# Altium schematic symbol library Microcontrollers.SchLib: 6 symbols
Pins are listed as number, name and electrical type; pins without a type are passive.

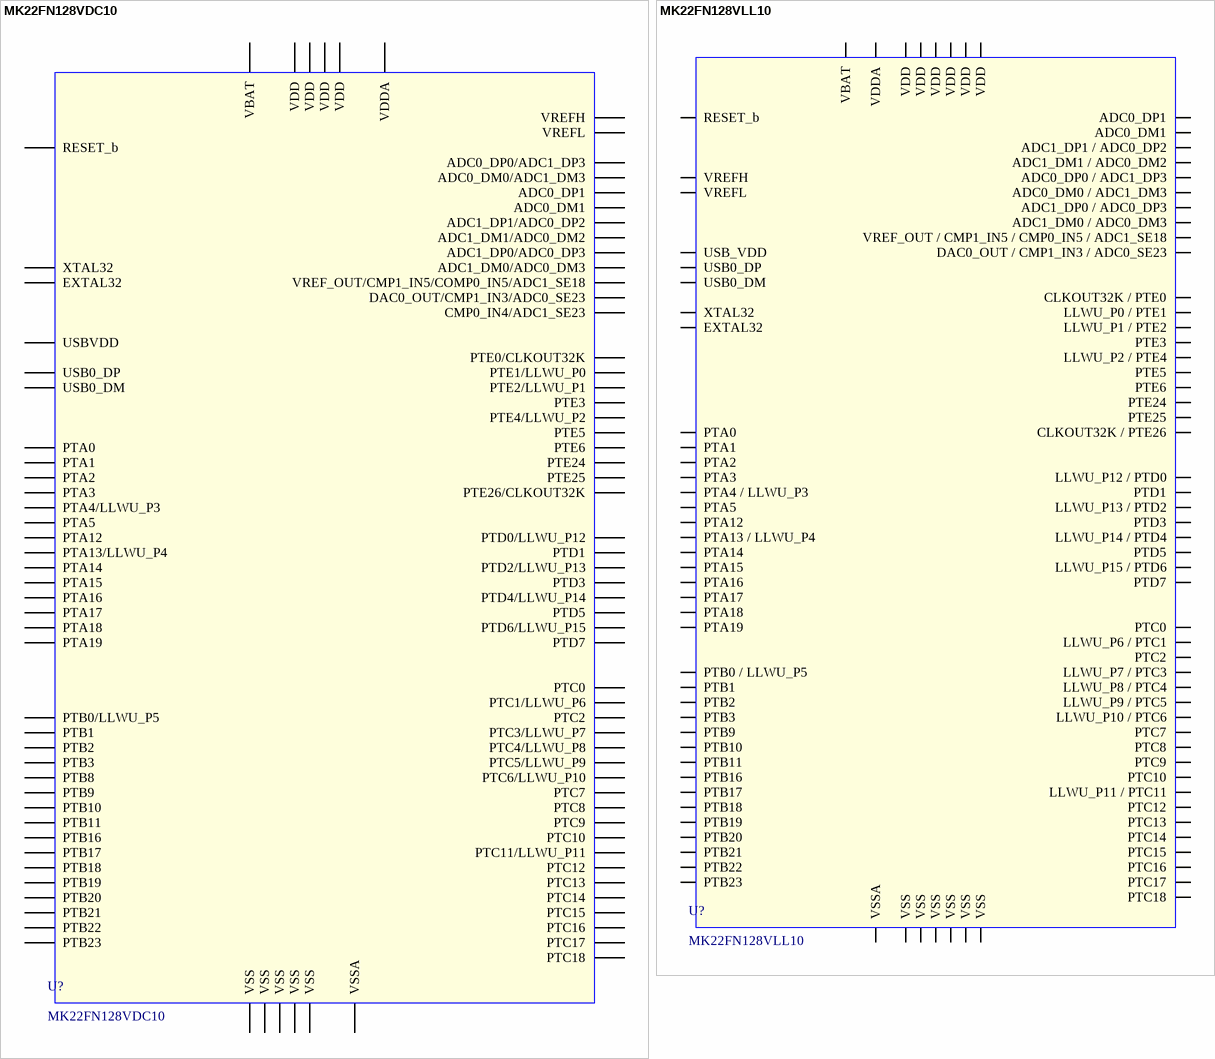
[diagram p0: symbols MK22FN128VDC10 to MK22FN128VLL10]

## MK22FN128VDC10
designator U?
32-bit ARM Cortex-M4 Microcontroller; MFG: FREESCALE; MFG_PN: MK22FN128VDC10
footprint BGA121_0.65mm
pins: A1 PTD7, A2 PTD5, A3 PTD4/LLWU_P14, A4 NC hidden, A5 PTC14, A6 PTC13, A7 PTC8, A8 PTC4/LLWU_P8, A9 NC hidden, A10 NC hidden, A11 NC hidden, B1 NC hidden, B2 PTD6/LLWU_P15, B3 PTD3, B4 PTC18, B5 PTC15, B6 PTC12, B7 PTC7, B8 PTC3/LLWU_P7, B9 PTC0, B10 PTB16, B11 NC hidden, C1 NC hidden, C2 NC hidden, C3 PTD2/LLWU_P13, C4 PTC17, C5 PTC11/LLWU_P11, C6 PTC10, C7 PTC6/LLWU_P10, C8 PTC2, C9 PTB19, C10 PTB11, C11 NC hidden, D1 NC hidden, D2 NC hidden, D3 PTD1, D4 PTD0/LLWU_P12, D5 PTC16, D6 PTC9, D7 PTC5/LLWU_P9, D8 PTC1/LLWU_P6, D9 PTB18, D10 PTB10, D11 PTB8, E1 NC hidden, E2 PTE2/LLWU_P1, E3 PTE1/LLWU_P0, E4 PTE0/CLKOUT32K, E5 VDD, E6 VDD, E7 VDD, E8 PTB23, E9 PTB17, E10 PTB9, E11 NC hidden, F1 USB0_DP, F2 USB0_DM, F3 PTE6, F4 PTE3, F5 VDDA, F6 VSSA, F7 VSS, F8 PTB22, F9 PTB21, F10 PTB20, F11 NC hidden, G1 USBVDD, G2 NC hidden, G3 VSS, G4 PTE5, G5 VREFH, G6 VREFL, G7 VSS, G8 PTB3, G9 PTB2, G10 PTB1, G11 PTB0/LLWU_P5, H1 ADC0_DP1, H2 ADC0_DM1, H3 NC hidden, H4 NC hidden, H5 PTE24, H6 PTE26/CLKOUT32K, H7 PTE4/LLWU_P2, H8 PTA1, H9 PTA3, H10 PTA17, H11 NC hidden, J1 ADC1_DP1/ADC0_DP2, J2 ADC1_DM1/ADC0_DM2, J3 NC hidden, J4 NC hidden, J5 PTE25, J6 PTA0, J7 PTA2, J8 PTA4/LLWU_P3, J9 NC hidden, J10 PTA16, J11 RESET_b, K1 ADC0_DP0/ADC1_DP3, K2 ADC0_DM0/ADC1_DM3, K3 NC hidden, K4 CMP0_IN4/ADC1_SE23, K5 DAC0_OUT/CMP1_IN3/ADC0_SE23, K6 VBAT, K7 PTA5, K8 PTA12, K9 PTA14, K10 VSS, K11 PTA19, L1 ADC1_DP0/ADC0_DP3, L2 ADC1_DM0/ADC0_DM3, L3 VREF_OUT/CMP1_IN5/COMP0_IN5/ADC1_SE18, L4 XTAL32, L5 EXTAL32, L6 VSS, L7 NC hidden, L8 PTA13/LLWU_P4, L9 PTA15, L10 VDD, L11 PTA18

## MK22FN128VLL10
designator U?
32-bit ARM Cortex-M4 Microcontroller; MFG: FREESCALE; MFG_PN: MK22FN128VLL10
footprint LQFP100 0.5mm 14mmx14mm
pins: 1 CLKOUT32K / PTE0, 2 LLWU_P0 / PTE1, 3 LLWU_P1 / PTE2, 4 PTE3, 5 LLWU_P2 / PTE4, 6 PTE5, 7 PTE6, 8 VDD, 9 VSS, 10 USB0_DP, 11 USB0_DM, 12 USB_VDD, 13 NC hidden, 14 ADC0_DP1, 15 ADC0_DM1, 16 ADC1_DP1 / ADC0_DP2, 17 ADC1_DM1 / ADC0_DM2, 18 ADC0_DP0 / ADC1_DP3, 19 ADC0_DM0 / ADC1_DM3, 20 ADC1_DP0 / ADC0_DP3, 21 ADC1_DM0 / ADC0_DM3, 22 VDDA, 23 VREFH, 24 VREFL, 25 VSSA, 26 VREF_OUT / CMP1_IN5 / CMP0_IN5 / ADC1_SE18, 27 DAC0_OUT / CMP1_IN3 / ADC0_SE23, 28 XTAL32, 29 EXTAL32, 30 VBAT, 31 PTE24, 32 PTE25, 33 CLKOUT32K / PTE26, 34 PTA0, 35 PTA1, 36 PTA2, 37 PTA3, 38 PTA4 / LLWU_P3, 39 PTA5, 40 VDD, 41 VSS, 42 PTA12, 43 PTA13 / LLWU_P4, 44 PTA14, 45 PTA15, 46 PTA16, 47 PTA17, 48 VDD, 49 VSS, 50 PTA18, 51 PTA19, 52 RESET_b, 53 PTB0 / LLWU_P5, 54 PTB1, 55 PTB2, 56 PTB3, 57 PTB9, 58 PTB10, 59 PTB11, 60 VSS, 61 VDD, 62 PTB16, 63 PTB17, 64 PTB18, 65 PTB19, 66 PTB20, 67 PTB21, 68 PTB22, 69 PTB23, 70 PTC0, 71 LLWU_P6 / PTC1, 72 PTC2, 73 LLWU_P7 / PTC3, 74 VSS, 75 VDD, 76 LLWU_P8 / PTC4, 77 LLWU_P9 / PTC5, 78 LLWU_P10 / PTC6, 79 PTC7, 80 PTC8, 81 PTC9, 82 PTC10, 83 LLWU_P11 / PTC11, 84 PTC12, 85 PTC13, 86 PTC14, 87 PTC15, 88 VSS, 89 VDD, 90 PTC16, 91 PTC17, 92 PTC18, 93 LLWU_P12 / PTD0, 94 PTD1, 95 LLWU_P13 / PTD2, 96 PTD3, 97 LLWU_P14 / PTD4, 98 PTD5, 99 LLWU_P15 / PTD6, 100 PTD7

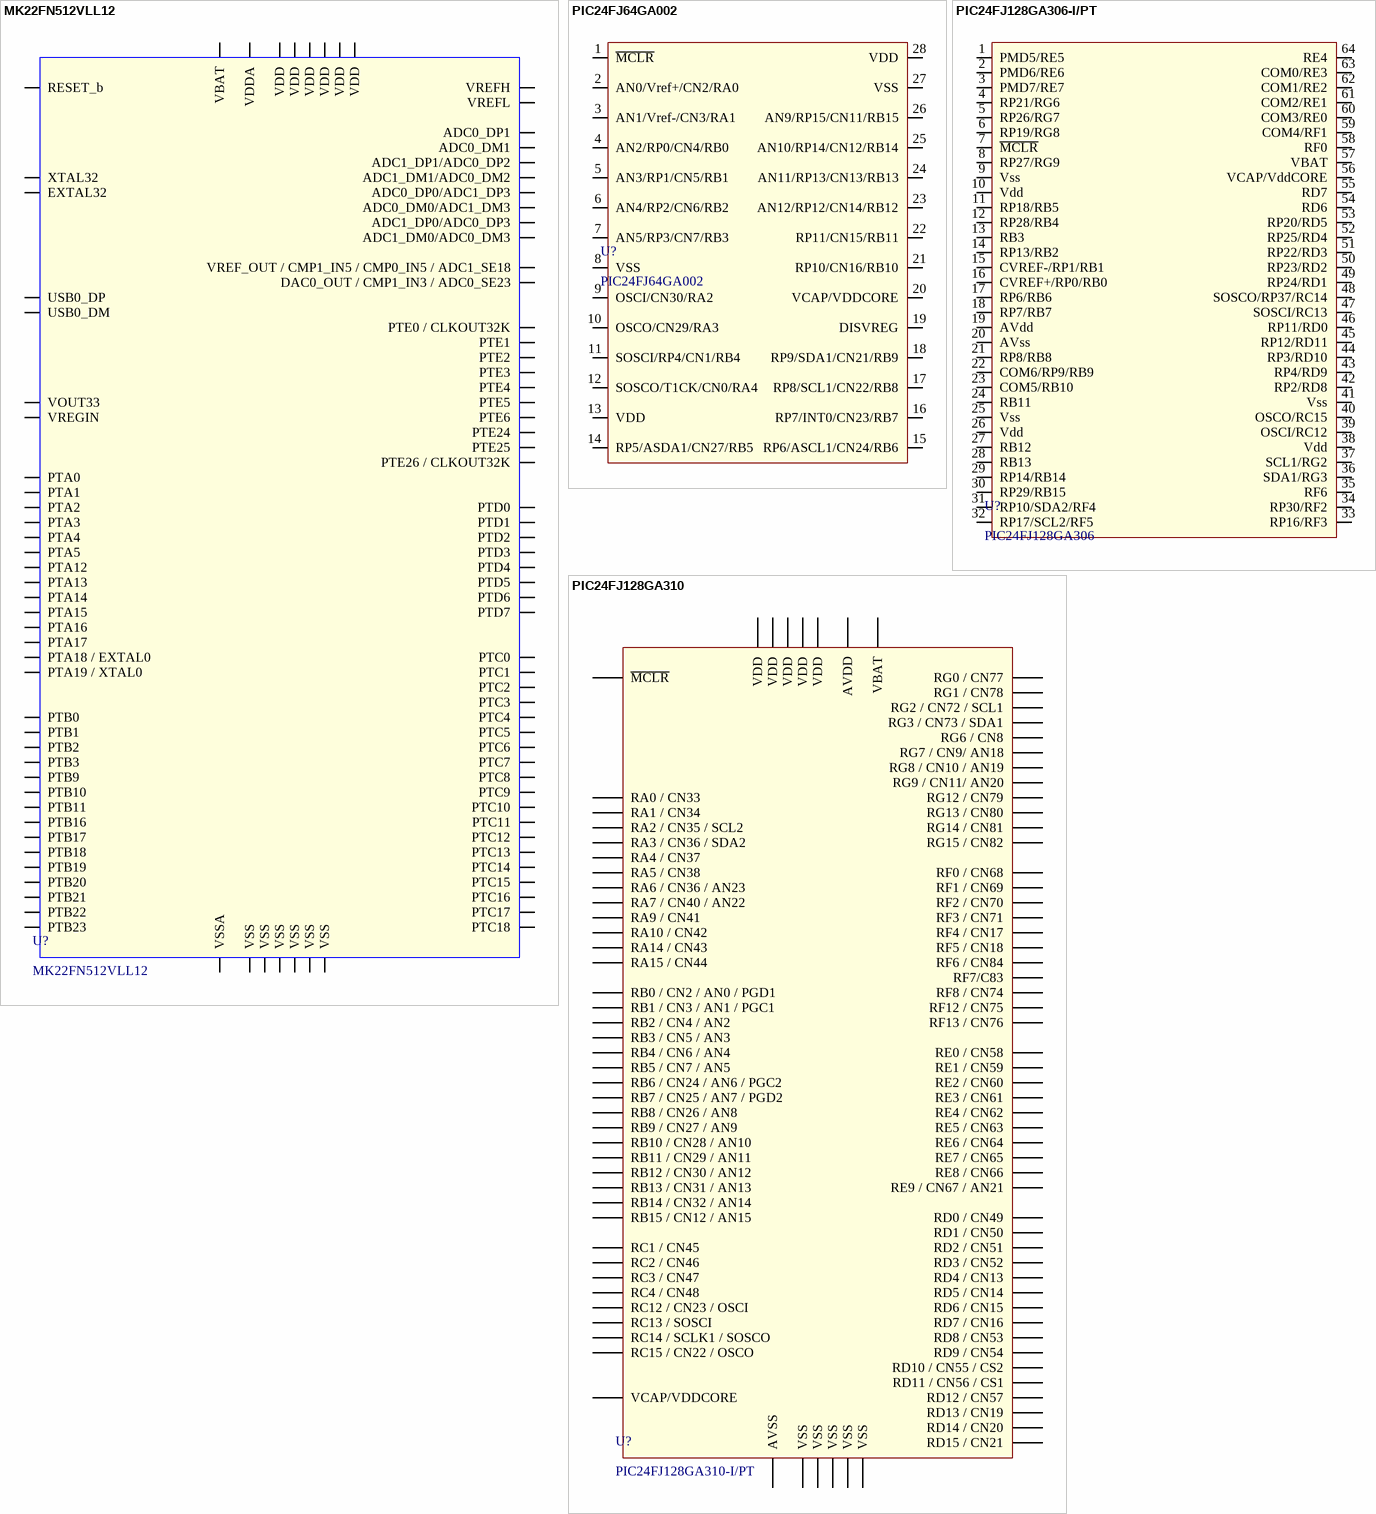
[diagram p1: symbols MK22FN512VLL12 to PIC24FJ128GA310]

## MK22FN512VLL12
designator U?
32-bit ARM Cortex-M4 Microcontroller; MFG: FREESCALE; MFG_PN: MK22FN512VLL12
footprint LQFP100 0.5mm 14mmx14mm
pins: 1 PTE0 / CLKOUT32K, 2 PTE1, 3 PTE2, 4 PTE3, 5 PTE4, 6 PTE5, 7 PTE6, 8 VDD, 9 VSS, 10 USB0_DP, 11 USB0_DM, 12 VOUT33, 13 VREGIN, 14 ADC0_DP1, 15 ADC0_DM1, 16 ADC1_DP1/ADC0_DP2, 17 ADC1_DM1/ADC0_DM2, 18 ADC0_DP0/ADC1_DP3, 19 ADC0_DM0/ADC1_DM3, 20 ADC1_DP0/ADC0_DP3, 21 ADC1_DM0/ADC0_DM3, 22 VDDA, 23 VREFH, 24 VREFL, 25 VSSA, 26 VREF_OUT / CMP1_IN5 / CMP0_IN5 / ADC1_SE18, 27 DAC0_OUT / CMP1_IN3 / ADC0_SE23, 28 XTAL32, 29 EXTAL32, 30 VBAT, 31 PTE24, 32 PTE25, 33 PTE26 / CLKOUT32K, 34 PTA0, 35 PTA1, 36 PTA2, 37 PTA3, 38 PTA4, 39 PTA5, 40 VDD, 41 VSS, 42 PTA12, 43 PTA13, 44 PTA14, 45 PTA15, 46 PTA16, 47 PTA17, 48 VDD, 49 VSS, 50 PTA18 / EXTAL0, 51 PTA19 / XTAL0, 52 RESET_b, 53 PTB0, 54 PTB1, 55 PTB2, 56 PTB3, 57 PTB9, 58 PTB10, 59 PTB11, 60 VSS, 61 VDD, 62 PTB16, 63 PTB17, 64 PTB18, 65 PTB19, 66 PTB20, 67 PTB21, 68 PTB22, 69 PTB23, 70 PTC0, 71 PTC1, 72 PTC2, 73 PTC3, 74 VSS, 75 VDD, 76 PTC4, 77 PTC5, 78 PTC6, 79 PTC7, 80 PTC8, 81 PTC9, 82 PTC10, 83 PTC11, 84 PTC12, 85 PTC13, 86 PTC14, 87 PTC15, 88 VSS, 89 VDD, 90 PTC16, 91 PTC17, 92 PTC18, 93 PTD0, 94 PTD1, 95 PTD2, 96 PTD3, 97 PTD4, 98 PTD5, 99 PTD6, 100 PTD7

## PIC24FJ64GA002
designator U?
MFG: Microchip; MFG_PN: PIC24FJ64GA002-I/SS
footprint SSOP-28
pins: 1 ~{MCLR}, 2 AN0/Vref+/CN2/RA0, 3 AN1/Vref-/CN3/RA1, 4 AN2/RP0/CN4/RB0, 5 AN3/RP1/CN5/RB1, 6 AN4/RP2/CN6/RB2, 7 AN5/RP3/CN7/RB3, 8 VSS, 9 OSCI/CN30/RA2, 10 OSCO/CN29/RA3, 11 SOSCI/RP4/CN1/RB4, 12 SOSCO/T1CK/CN0/RA4, 13 VDD, 14 RP5/ASDA1/CN27/RB5, 15 RP6/ASCL1/CN24/RB6, 16 RP7/INT0/CN23/RB7, 17 RP8/SCL1/CN22/RB8, 18 RP9/SDA1/CN21/RB9, 19 DISVREG, 20 VCAP/VDDCORE, 21 RP10/CN16/RB10, 22 RP11/CN15/RB11, 23 AN12/RP12/CN14/RB12, 24 AN11/RP13/CN13/RB13, 25 AN10/RP14/CN12/RB14, 26 AN9/RP15/CN11/RB15, 27 VSS, 28 VDD

## PIC24FJ128GA306-I/PT
designator U?, comment PIC24FJ128GA306
MFG: Microchip; MFG_PN: PIC24FJ128GA306-I/PT
footprint TQFP-64 (0.5mm) (0.5mm Pitch)
pins: 1 PMD5/RE5, 2 PMD6/RE6, 3 PMD7/RE7, 4 RP21/RG6, 5 RP26/RG7, 6 RP19/RG8, 7 ~{MCLR}, 8 RP27/RG9, 9 Vss, 10 Vdd, 11 RP18/RB5, 12 RP28/RB4, 13 RB3, 14 RP13/RB2, 15 CVREF-/RP1/RB1, 16 CVREF+/RP0/RB0, 17 RP6/RB6, 18 RP7/RB7, 19 AVdd, 20 AVss, 21 RP8/RB8, 22 COM6/RP9/RB9, 23 COM5/RB10, 24 RB11, 25 Vss, 26 Vdd, 27 RB12, 28 RB13, 29 RP14/RB14, 30 RP29/RB15, 31 RP10/SDA2/RF4, 32 RP17/SCL2/RF5, 33 RP16/RF3, 34 RP30/RF2, 35 RF6, 36 SDA1/RG3, 37 SCL1/RG2, 38 Vdd, 39 OSCI/RC12, 40 OSCO/RC15, 41 Vss, 42 RP2/RD8, 43 RP4/RD9, 44 RP3/RD10, 45 RP12/RD11, 46 RP11/RD0, 47 SOSCI/RC13, 48 SOSCO/RP37/RC14, 49 RP24/RD1, 50 RP23/RD2, 51 RP22/RD3, 52 RP25/RD4, 53 RP20/RD5, 54 RD6, 55 RD7, 56 VCAP/VddCORE, 57 VBAT, 58 RF0, 59 COM4/RF1, 60 COM3/RE0, 61 COM2/RE1, 62 COM1/RE2, 63 COM0/RE3, 64 RE4

## PIC24FJ128GA310
designator U?, comment PIC24FJ128GA310-I/PT
MFG: Microchip; MFG_PN: PIC24FJ128GA310-I/PT
footprint TQFP100 0.4mm Pitch (TQFP100 0.4mm pitch)
pins: 1 RG15 / CN82, 2 VDD, 3 RE5 / CN63, 4 RE6 / CN64, 5 RE7 / CN65, 6 RC1 / CN45, 7 RC2 / CN46, 8 RC3 / CN47, 9 RC4 / CN48, 10 RG6 / CN8, 11 RG7 / CN9/ AN18, 12 RG8 / CN10 / AN19, 13 ~{MCLR}, 14 RG9 / CN11/ AN20, 15 VSS, 16 VDD, 17 RA0 / CN33, 18 RE8 / CN66, 19 RE9 / CN67 / AN21, 20 RB5 / CN7 / AN5, 21 RB4 / CN6 / AN4, 22 RB3 / CN5 / AN3, 23 RB2 / CN4 / AN2, 24 RB1 / CN3 / AN1 / PGC1, 25 RB0 / CN2 / AN0 / PGD1, 26 RB6 / CN24 / AN6 / PGC2, 27 RB7 / CN25 / AN7 / PGD2, 28 RA9 / CN41, 29 RA10 / CN42, 30 AVDD, 31 AVSS, 32 RB8 / CN26 / AN8, 33 RB9 / CN27 / AN9, 34 RB10 / CN28 / AN10, 35 RB11 / CN29 / AN11, 36 VSS, 37 VDD, 38 RA1 / CN34, 39 RF13 / CN76, 40 RF12 / CN75, 41 RB12 / CN30 / AN12, 42 RB13 / CN31 / AN13, 43 RB14 / CN32 / AN14, 44 RB15 / CN12 / AN15, 45 VSS, 46 VDD, 47 RD14 / CN20, 48 RD15 / CN21, 49 RF4 / CN17, 50 RF5 / CN18, 51 RF3 / CN71, 52 RF2 / CN70, 53 RF8 / CN74, 54 RF7/C83, 55 RF6 / CN84, 56 RG3 / CN73 / SDA1, 57 RG2 / CN72 / SCL1, 58 RA2 / CN35 / SCL2, 59 RA3 / CN36 / SDA2, 60 RA4 / CN37, 61 RA5 / CN38, 62 VDD, 63 RC12 / CN23 / OSCI, 64 RC15 / CN22 / OSCO, 65 VSS, 66 RA14 / CN43, 67 RA15 / CN44, 68 RD8 / CN53, 69 RD9 / CN54, 70 RD10 / CN55 / CS2, 71 RD11 / CN56 / CS1, 72 RD0 / CN49, 73 RC13 / SOSCI, 74 RC14 / SCLK1 / SOSCO, 75 VSS, 76 RD1 / CN50, 77 RD2 / CN51, 78 RD3 / CN52, 79 RD12 / CN57, 80 RD13 / CN19, 81 RD4 / CN13, 82 RD5 / CN14, 83 RD6 / CN15, 84 RD7 / CN16, 85 VCAP/VDDCORE, 86 VBAT, 87 RF0 / CN68, 88 RF1 / CN69, 89 RG1 / CN78, 90 RG0 / CN77, 91 RA6 / CN36 / AN23, 92 RA7 / CN40 / AN22, 93 RE0 / CN58, 94 RE1 / CN59, 95 RG14 / CN81, 96 RG12 / CN79, 97 RG13 / CN80, 98 RE2 / CN60, 99 RE3 / CN61, 100 RE4 / CN62